# Altium footprint library JUMPER 5 CHÂN.PcbLib: 1 footprints
Each footprint in its own frame and in the unit in brackets; x right, y up, seen from the top. Pads: shape width x height; smd on the part's side, far side on the other; paste and mask are expansions set on the pad; w line width, h text height; cw(c..) or ccw(c..) is an arc to the next point about the centre after c.
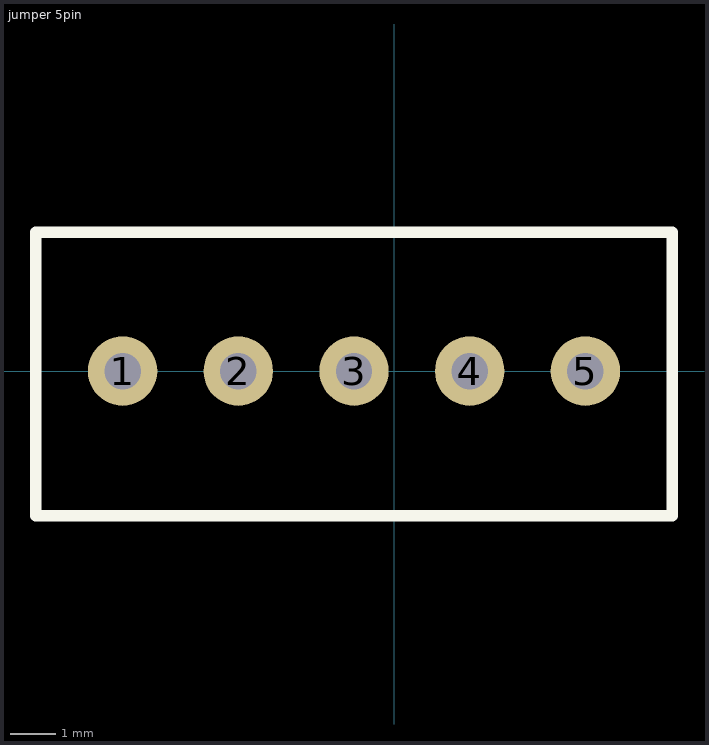
[diagram p0: the footprint, top view; thin cyan lines are the x and y axes]

## jumper 5pin [mil]
pads (5):
  round 60 hole 31.5: 1(-235,0) 2(-135,0) 3(-35,0) 4(65,0) 5(165,0)
Top Overlay:
  lines w10: -310,-125 -310,120 -305,120 240,120 240,-125 -310,-125